# Altium footprint library SRR0735HA151M.PcbLib: 1 footprints
Each footprint in its own frame and in the unit in brackets; x right, y up, seen from the top. Pads: shape width x height; smd on the part's side, far side on the other; paste and mask are expansions set on the pad; w line width, h text height; cw(c..) or ccw(c..) is an arc to the next point about the centre after c.
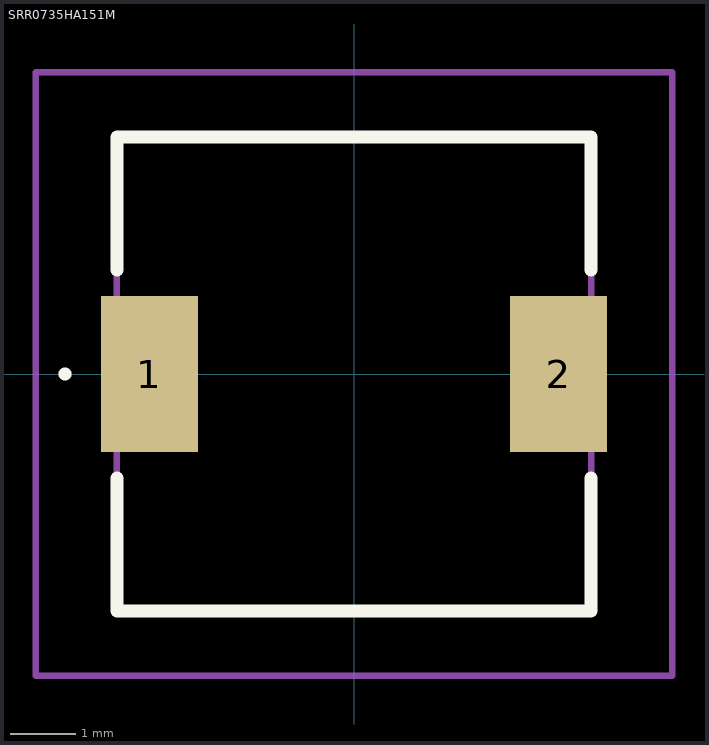
[diagram p0: the footprint, top view; thin cyan lines are the x and y axes]

## SRR0735HA151M [mm]
pads (2):
  rect 1.5x2.4 smd: 1(-3.15,0) 2(3.15,0)
Top Overlay:
  lines w0.1: -4.5,0 -4.5,0 ; -4.5,0 ccw(c-4.45,0) -4.4,0 ; -4.5,0 cw(c-4.45,0) -4.4,0 ; -4.4,0 -4.4,0
  lines w0.2: -3.65,-1.6 -3.65,-3.65 3.65,-3.65 3.65,-1.6 ; -3.65,1.6 -3.65,3.65 3.65,3.65 3.65,1.6
Mechanical 15:
  lines w0.1: -3.65,-3.65 3.65,-3.65 3.65,3.65 -3.65,3.65 -3.65,-3.65
Mechanical 20:
  lines w0.1: -4.9,-4.65 4.9,-4.65 4.9,4.65 -4.9,4.65 -4.9,-4.65